# Altium footprint library DT13-6P.PcbLib: 1 footprints
Each footprint in its own frame and in the unit in brackets; x right, y up, seen from the top. Pads: shape width x height; smd on the part's side, far side on the other; paste and mask are expansions set on the pad; w line width, h text height; cw(c..) or ccw(c..) is an arc to the next point about the centre after c.
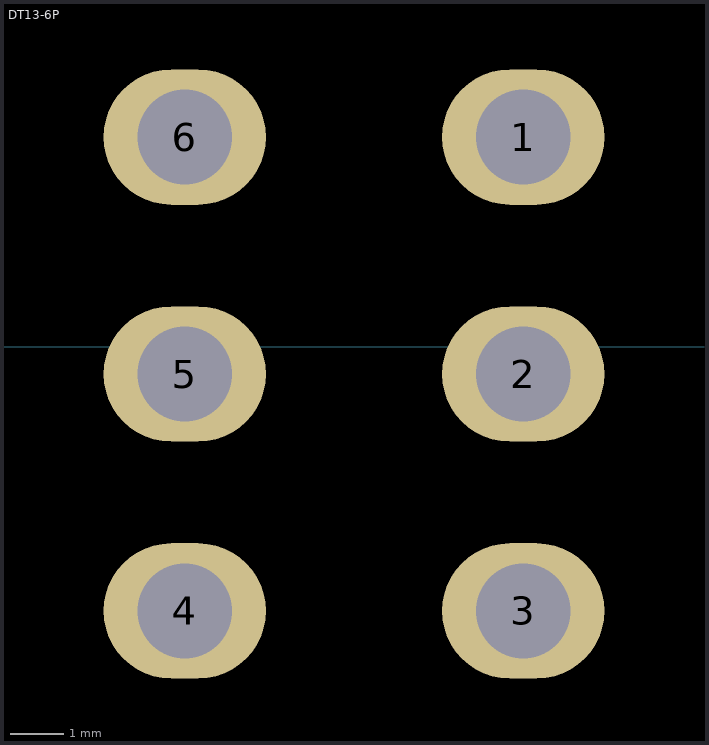
[diagram p0: the footprint, top view; thin cyan lines are the x and y axes]

## DT13-6P [mil]
pads (6):
  oval 120x100 hole 70: 1(540,155) 2(540,-20) 3(540,-195) 4(290,-195) 5(290,-20) 6(290,155)
3D body "dt13-6p.SLDPRT": height 1424, standoff -95, extent -895,-802.5 660,882.5